# Altium footprint library mounting_holes.PcbLib: 2 footprints
Each footprint in its own frame and in the unit in brackets; x right, y up, seen from the top. Pads: shape width x height; smd on the part's side, far side on the other; paste and mask are expansions set on the pad; w line width, h text height; cw(c..) or ccw(c..) is an arc to the next point about the centre after c.
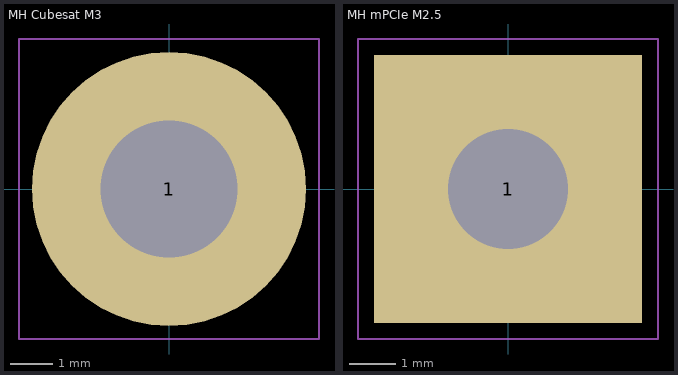
[diagram p0: the footprints below, top view; thin cyan lines are the x and y axes]

## MH Cubesat M3 [mm]
pads (1):
  round 6.4 hole 3.2: 1(0,0)
Mechanical 15:
  lines w0.05: -3.5,-3.5 -3.5,3.5 3.5,3.5 3.5,-3.5 -3.5,-3.5

## MH mPCIe M2.5 [mm] "M2.5 mounting hole for mPCIe boards"
pads (1):
  rect 5.8x5.8 hole 2.6: 1(0,0)
Mechanical 15:
  lines w0.05: -3.25,-3.25 3.25,-3.25 3.25,3.25 -3.25,3.25 -3.25,-3.25